# Altium footprint library consubd.PcbLib: 91 footprints (part 2 of 6)
Each footprint in its own frame and in the unit in brackets; x right, y up, seen from the top. Pads: shape width x height; smd on the part's side, far side on the other; paste and mask are expansions set on the pad; w line width, h text height; cw(c..) or ccw(c..) is an arc to the next point about the centre after c.
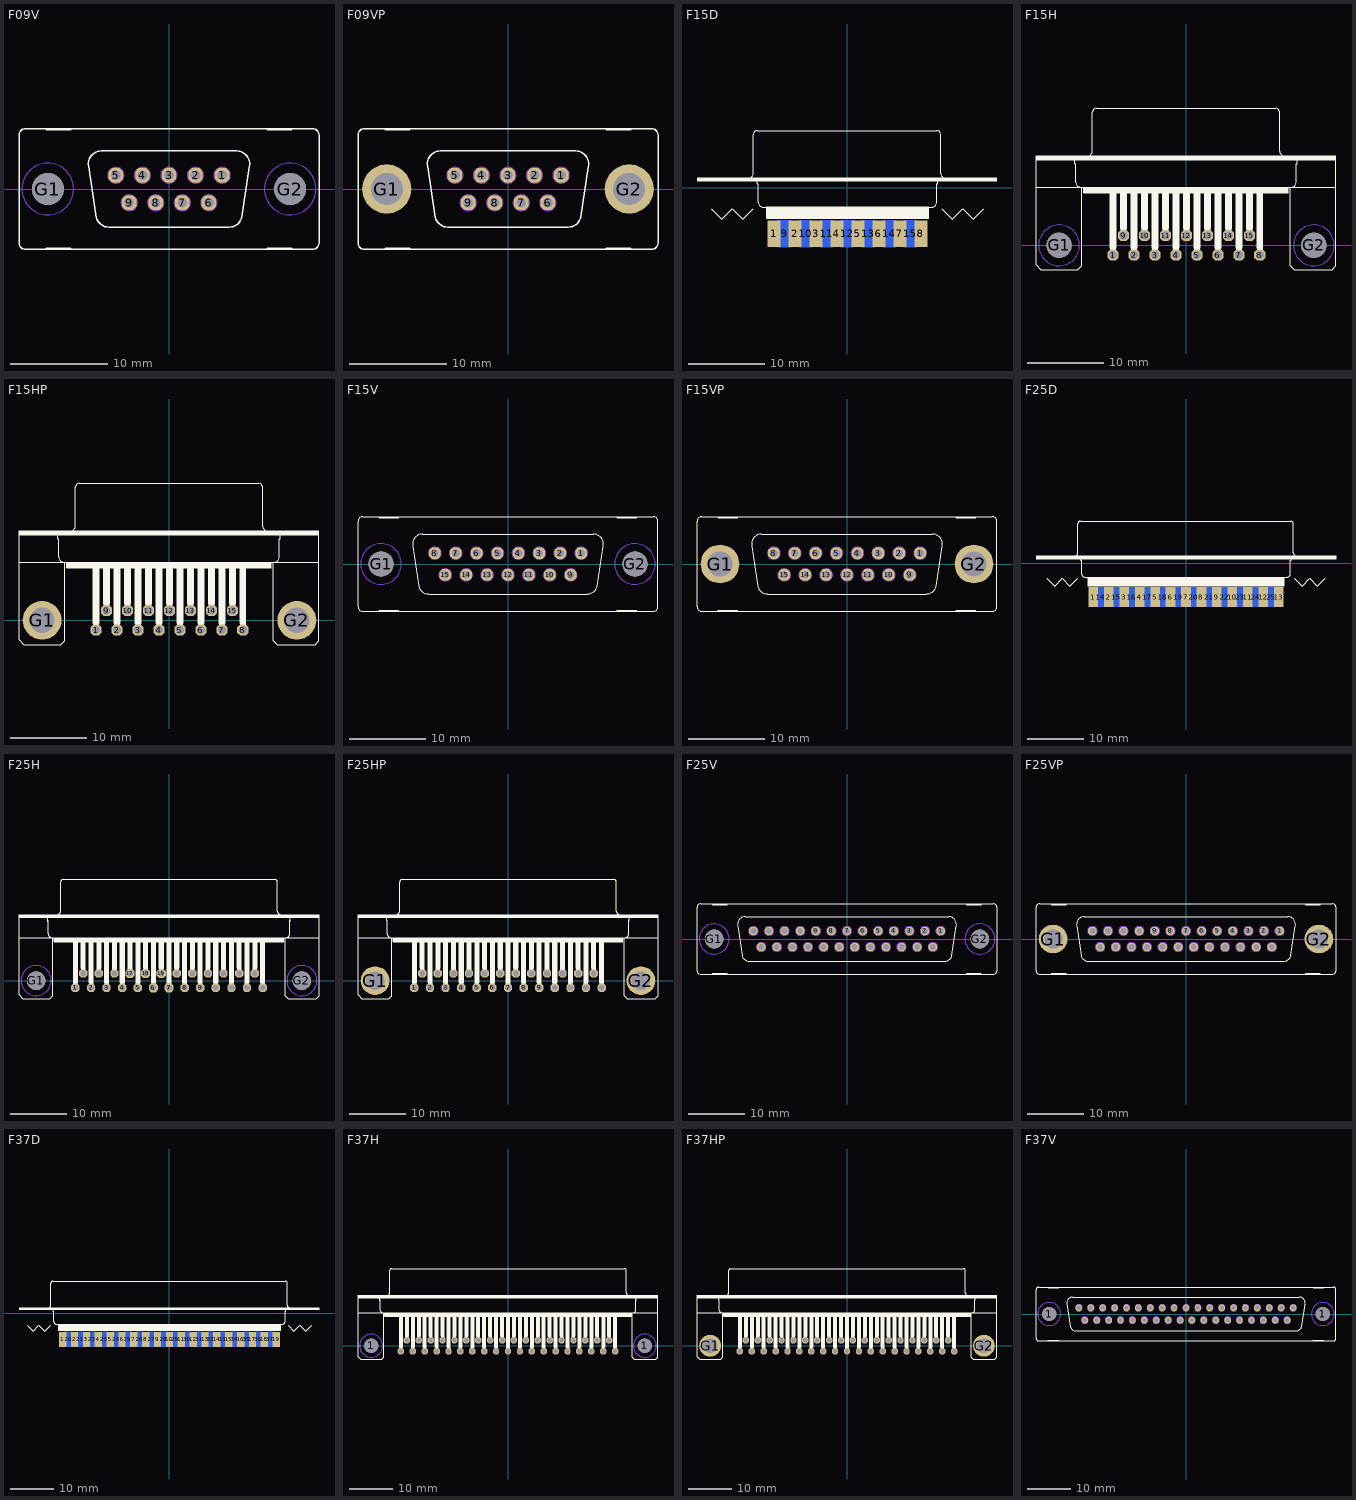
[diagram p1: the footprints below, top view; thin cyan lines are the x and y axes]

## F09V [mil]
pads (11):
  oct 58.09x58.09 hole 40: 1(216,56) 2(108,56) 3(0,56) 4(-108,56) 5(-216,56) 6(162,-56) 7(54,-56) 8(-54,-56) 9(-162,-56)
  round 130 hole 130: G1(-493,0) G2(493,0)
Top Layer keep-out:
  circle w0: c-493,0 r105
  circle w0: c493,0 r105
Bottom Layer keep-out:
  circle w0: c-493,0 r105
  circle w0: c493,0 r105
Top Overlay:
  lines w6: -327,92 -296,-116 ; -326.97,91.61 cw(c-275,102) -275,155 275,155 cw(c275,101.99) 326.79,90.7 ; -296.3,-115.33 ccw(c-245,-101.99) -245,-155 245,-155 ccw(c244.99,-102) 296.52,-114.37 ; 296,-115 327,91 ; -500,-245 -500,-240 -400,-240 -400,-245 ; -500,-245 -400,-245 ; -500,-245 -585,-245 cw(c-585,-220) -610,-220 -610,220 cw(c-585,220) -585,245 -500,245 ; -500,245 -500,240 -400,240 -400,245 ; -500,245 -400,245 ; -400,-245 400,-245 ; -400,245 400,245 ; 400,-245 400,-240 500,-240 500,-245 ; 400,-245 500,-245 ; 400,245 400,240 500,240 500,245 ; 400,245 500,245 ; 500,-245 585,-245 ccw(c585,-220) 610,-220 610,220 ccw(c585,220) 585,245 500,245
Mechanical 8:
  circle w10: c54,-56 r30
  circle w10: c108,56 r30
  circle w10: c162,-56 r30
  circle w10: c216,56 r30
  circle w10: c0,56 r30
  circle w10: c-54,-56 r30
  circle w10: c-108,56 r30
  circle w10: c-162,-56 r30
  circle w10: c-216,56 r30

## F09VP [mil]
pads (11):
  oct 58.09x58.09 hole 40: 1(216,56) 2(108,56) 3(0,56) 4(-108,56) 5(-216,56) 6(162,-56) 7(54,-56) 8(-54,-56) 9(-162,-56)
  round 200 hole 130: G1(-493,0) G2(493,0)
Top Overlay:
  lines w6: -327,92 -296,-116 ; -326.97,91.61 cw(c-275,102) -275,155 275,155 cw(c275,101.99) 326.79,90.7 ; -296.3,-115.33 ccw(c-245,-101.99) -245,-155 245,-155 ccw(c244.99,-102) 296.52,-114.37 ; 296,-115 327,91 ; -500,-245 -585,-245 cw(c-585,-220) -610,-220 -610,220 cw(c-585,220) -585,245 -500,245 ; -500,-245 -400,-245 ; -500,-245 -500,-240 -400,-240 -400,-245 ; -500,245 -400,245 ; -500,245 -500,240 -400,240 -400,245 ; -400,-245 400,-245 ; -400,245 400,245 ; 400,-245 500,-245 ; 400,-245 400,-240 500,-240 500,-245 ; 400,245 500,245 ; 400,245 400,240 500,240 500,245 ; 500,-245 585,-245 ccw(c585,-220) 610,-220 610,220 ccw(c585,220) 585,245 500,245
Mechanical 8:
  circle w10: c-216,56 r30
  circle w10: c-162,-56 r30
  circle w10: c-108,56 r30
  circle w10: c-54,-56 r30
  circle w10: c0,56 r30
  circle w10: c216,56 r30
  circle w10: c162,-56 r30
  circle w10: c108,56 r30
  circle w10: c54,-56 r30

## F15D [mil]
pads (15):
  rect 66.93x137.8 smd: 1(-378.01,-237.98) 2(-270,-237.99) 3(-161.99,-237.98) 4(-54.01,-237.98) 5(54.01,-237.98) 6(161.99,-237.98) 7(270,-237.99) 8(378.01,-237.98)
  rect 66.93x137.8 smd far side: 9(-324,-238) 10(-216,-238) 11(-108,-238) 12(0,-238) 13(108,-238) 14(216,-238) 15(324,-238)
Top Overlay:
  region: -775,31.94 -775,51.94 770,51.94 770,31.94
  region: -417.32,-161.42 -417.32,-98.43 417.32,-98.43 417.32,-161.42
  lines w0: -702,-108 -648,-162 -594,-108 -540,-162 -486,-108 ; 486,-108 540,-162 594,-108 648,-162 702,-108
  lines w6: -510,48 ccw(c-510,73) -485,73 -485,273 cw(c-465,273) -465,293 460,293 cw(c460,273) 480,273 480,73 ccw(c505,73) 505,48 ; -464,40 -464,20 -459,20 -459,-75 ccw(c-434,-75) -434,-100 ; -434.76,-100 434.76,-100 ; 434,-100 ccw(c434,-75) 459,-75 459,20 464,20 464,40

## F15H [mil]
pads (17):
  oct 58.09x58.09 hole 40: 1(-378,-50) 2(-270,-50) 3(-162,-50) 4(-54,-50) 5(54,-50) 6(162,-50) 7(270,-50) 8(378,-50) 9(-324,50) 10(-216,50) 11(-108,50) 12(0,50) 13(108,50) 14(216,50) 15(324,50)
  round 130 hole 130: G1(-656,0) G2(656,0)
Top Layer keep-out:
  circle w0: c-656,0 r105
  circle w0: c656,0 r105
Bottom Layer keep-out:
  circle w0: c-656,0 r105
  circle w0: c656,0 r105
Top Overlay:
  region: -530,270 -530,300 525,300 525,270
  region: -775,440 -775,460 770,460 770,440
  region: -394,-15 -394,270 -362,270 -362,-15
  region: -340,85 -340,270 -308,270 -308,85
  region: -286,-15 -286,270 -254,270 -254,-15
  region: -232,85 -232,270 -200,270 -200,85
  region: -178,-15 -178,270 -146,270 -146,-15
  region: -124,85 -124,270 -92,270 -92,85
  region: -70,-15 -70,270 -38,270 -38,-15
  region: -16,85 -16,270 16,270 16,85
  region: 38,-15 38,270 70,270 70,-15
  region: 92,85 92,270 124,270 124,85
  region: 146,-15 146,270 178,270 178,-15
  region: 200,85 200,270 232,270 232,85
  region: 254,-15 254,270 286,270 286,-15
  region: 308,85 308,270 340,270 340,85
  region: 362,-15 362,270 394,270 394,-15
  lines w6: -545,300 cw(c-545,325) -570,325 -570,420 -575,420 -575,440 ; -510,460 ccw(c-510,485) -485,485 -485,685 cw(c-465,685) -465,705 -455,705 450,705 460,705 cw(c460,685) 480,685 480,485 ccw(c505,485) 505,460 ; 540,300 ccw(c540,325) 565,325 565,420 570,420 570,440 ; -775,300 -575,300 -540,300 ; -775,300 -775,420 -775,440 ; -775,300 -775,295 -775,-100 -750,-125 -560,-125 -540,-105 -540,300 ; -775,440 -775,460 -470,460 465,460 770,460 770,440 ; -775,440 -675,440 -575,440 ; -575,440 570,440 ; -540,300 -530,300 ; -530,300 -530,270 525,270 525,300 ; -530,300 525,300 ; 525,300 535,300 ; 535,300 570,300 770,300 ; 535,300 535,-105 555,-125 750,-125 770,-105 770,295 770,300 ; 570,440 670,440 770,440 ; 770,300 770,420 770,440
  lines w32: -378,-45 -378,-5 ; -324,55 -324,95 ; -270,-45 -270,-5 ; -216,55 -216,95 ; -162,-45 -162,-5 ; -108,55 -108,95 ; -54,-45 -54,-5 ; 0,55 0,95 ; 54,-45 54,-5 ; 108,55 108,95 ; 162,-45 162,-5 ; 216,55 216,95 ; 270,-45 270,-5 ; 324,55 324,95 ; 378,-45 378,-5

## F15HP [mil]
pads (17):
  oct 58.09x58.09 hole 40: 1(-378,-50) 2(-270,-50) 3(-162,-50) 4(-54,-50) 5(54,-50) 6(162,-50) 7(270,-50) 8(378,-50) 9(-324,50) 10(-216,50) 11(-108,50) 12(0,50) 13(108,50) 14(216,50) 15(324,50)
  round 200 hole 130: G1(-656,0) G2(656,0)
Top Overlay:
  region: 362,-15 362,270 394,270 394,-15
  region: 308,85 308,270 340,270 340,85
  region: 254,-15 254,270 286,270 286,-15
  region: 200,85 200,270 232,270 232,85
  region: 146,-15 146,270 178,270 178,-15
  region: 92,85 92,270 124,270 124,85
  region: 38,-15 38,270 70,270 70,-15
  region: -16,85 -16,270 16,270 16,85
  region: -70,-15 -70,270 -38,270 -38,-15
  region: -124,85 -124,270 -92,270 -92,85
  region: -178,-15 -178,270 -146,270 -146,-15
  region: -232,85 -232,270 -200,270 -200,85
  region: -286,-15 -286,270 -254,270 -254,-15
  region: -340,85 -340,270 -308,270 -308,85
  region: -394,-15 -394,270 -362,270 -362,-15
  region: -775,440 -775,460 770,460 770,440
  region: -530,270 -530,300 525,300 525,270
  lines w6: -545,300 cw(c-545,325) -570,325 -570,420 -575,420 -575,440 ; -510,460 ccw(c-510,485) -485,485 -485,685 cw(c-465,685) -465,705 -455,705 450,705 460,705 cw(c460,685) 480,685 480,485 ccw(c505,485) 505,460 ; 540,300 ccw(c540,325) 565,325 565,420 570,420 570,440 ; -775,300 -775,295 -775,-100 -750,-125 -560,-125 -540,-105 -540,300 ; -775,300 -775,420 -775,440 ; -775,300 -575,300 -540,300 ; -775,440 -675,440 -575,440 ; -775,440 -775,460 -470,460 465,460 770,460 770,440 ; -575,440 570,440 ; -540,300 -530,300 ; -530,300 525,300 ; -530,300 -530,270 525,270 525,300 ; 525,300 535,300 ; 535,300 535,-105 555,-125 750,-125 770,-105 770,295 770,300 ; 535,300 570,300 770,300 ; 570,440 670,440 770,440 ; 770,300 770,420 770,440
  lines w32: -378,-45 -378,-5 ; -324,55 -324,95 ; -270,-45 -270,-5 ; -216,55 -216,95 ; -162,-45 -162,-5 ; -108,55 -108,95 ; -54,-45 -54,-5 ; 0,55 0,95 ; 54,-45 54,-5 ; 108,55 108,95 ; 162,-45 162,-5 ; 216,55 216,95 ; 270,-45 270,-5 ; 324,55 324,95 ; 378,-45 378,-5

## F15V [mil]
pads (17):
  oct 58.09x58.09 hole 40: 1(378,56) 2(270,56) 3(162,56) 4(54,56) 5(-54,56) 6(-162,56) 7(-270,56) 8(-378,56) 9(324,-56) 10(216,-56) 11(108,-56) 12(0,-56) 13(-108,-56) 14(-216,-56) 15(-324,-56)
  round 130 hole 130: G1(-656,0) G2(656,0)
Top Layer keep-out:
  circle w0: c-656,0 r105
  circle w0: c656,0 r105
Bottom Layer keep-out:
  circle w0: c-656,0 r105
  circle w0: c656,0 r105
Top Overlay:
  lines w6: -492,92 -461,-116 ; -491.97,91.61 cw(c-440,102) -440,155 440,155 cw(c440,101.99) 491.79,90.7 ; -461.3,-115.33 ccw(c-410,-101.99) -410,-155 410,-155 ccw(c409.99,-102) 461.52,-114.37 ; 461,-115 492,91 ; -665,-245 -750,-245 cw(c-750,-220) -775,-220 -775,220 cw(c-750,220) -750,245 -665,245 ; -665,-245 -565,-245 ; -665,-245 -665,-240 -565,-240 -565,-245 ; -665,245 -565,245 ; -665,245 -665,240 -565,240 -565,245 ; -565,-245 565,-245 ; -565,245 565,245 ; 565,-245 665,-245 ; 565,-245 565,-240 665,-240 665,-245 ; 565,245 665,245 ; 565,245 565,240 665,240 665,245 ; 665,-245 750,-245 ccw(c750,-220) 775,-220 775,220 ccw(c750,220) 750,245 665,245
Mechanical 8:
  circle w10: c-324,-56 r30
  circle w10: c-216,-56 r30
  circle w10: c-378,56 r30
  circle w10: c-270,56 r30
  circle w10: c324,-56 r30
  circle w10: c378,56 r30
  circle w10: c-162,56 r30
  circle w10: c-108,-56 r30
  circle w10: c-54,56 r30
  circle w10: c0,-56 r30
  circle w10: c54,56 r30
  circle w10: c270,56 r30
  circle w10: c216,-56 r30
  circle w10: c162,56 r30
  circle w10: c108,-56 r30

## F15VP [mil]
pads (17):
  oct 58.09x58.09 hole 40: 1(378,56) 2(270,56) 3(162,56) 4(54,56) 5(-54,56) 6(-162,56) 7(-270,56) 8(-378,56) 9(324,-56) 10(216,-56) 11(108,-56) 12(0,-56) 13(-108,-56) 14(-216,-56) 15(-324,-56)
  round 200 hole 130: G1(-656,0) G2(656,0)
Top Overlay:
  lines w6: -492,92 -461,-116 ; -491.97,91.61 cw(c-440,102) -440,155 440,155 cw(c440,101.99) 491.79,90.7 ; -461.3,-115.33 ccw(c-410,-101.99) -410,-155 410,-155 ccw(c409.99,-102) 461.52,-114.37 ; 461,-115 492,91 ; -665,-245 -750,-245 cw(c-750,-220) -775,-220 -775,220 cw(c-750,220) -750,245 -665,245 ; -665,-245 -565,-245 ; -665,-245 -665,-240 -565,-240 -565,-245 ; -665,245 -565,245 ; -665,245 -665,240 -565,240 -565,245 ; -565,-245 565,-245 ; -565,245 565,245 ; 565,-245 665,-245 ; 565,-245 565,-240 665,-240 665,-245 ; 565,245 665,245 ; 565,245 565,240 665,240 665,245 ; 665,-245 750,-245 ccw(c750,-220) 775,-220 775,220 ccw(c750,220) 750,245 665,245
Mechanical 8:
  circle w10: c-324,-56 r30
  circle w10: c-216,-56 r30
  circle w10: c-378,56 r30
  circle w10: c-270,56 r30
  circle w10: c324,-56 r30
  circle w10: c378,56 r30
  circle w10: c-162,56 r30
  circle w10: c-108,-56 r30
  circle w10: c-54,56 r30
  circle w10: c0,-56 r30
  circle w10: c54,56 r30
  circle w10: c270,56 r30
  circle w10: c216,-56 r30
  circle w10: c162,56 r30
  circle w10: c108,-56 r30

## F25D [mil]
pads (25):
  rect 66.93x137.8 smd: 1(-648.01,-237.98) 2(-540,-237.99) 3(-431.99,-237.98) 4(-324.01,-237.98) 5(-215.99,-237.98) 6(-108.01,-237.98) 7(0,-237.99) 8(108.01,-237.98) 9(215.99,-237.98) 10(324.01,-237.98) 11(431.99,-237.98) 12(540,-237.99) 13(648.01,-237.98)
  rect 66.93x137.8 smd far side: 14(-594,-238) 15(-486,-238) 16(-378,-238) 17(-270,-238) 18(-162,-238) 19(-54,-238) 20(54,-238) 21(162,-238) 22(270,-238) 23(378,-238) 24(486,-238) 25(594,-238)
Top Overlay:
  region: -685.04,-161.42 -685.04,-98.43 685.04,-98.43 685.04,-161.42
  region: -1047.24,27.56 -1047.24,51.18 1047.24,51.18 1047.24,27.56
  lines w0: -972,-108 -918,-162 -864,-108 -810,-162 -756,-108 ; 756,-108 810,-162 864,-108 918,-162 972,-108
  lines w6: -780,48 ccw(c-780,73) -755,73 -755,273 cw(c-735,273) -735,293 730,293 cw(c730,273) 750,273 750,73 ccw(c775,73) 775,48 ; -734,40 -734,20 -729,20 -729,-75 ccw(c-704,-75) -704,-100 ; -704.76,-100 704.76,-100 ; 704,-100 ccw(c704,-75) 729,-75 729,20 734,20 734,40

## F25H [mil]
pads (27):
  oct 58.09x58.09 hole 40: 1(-652,-50) 2(-543,-50) 3(-435,-50) 4(-326,-50) 5(-217,-50) 8(109,-50) 9(217,-50) 10(326,-50) 11(435,-50) 12(543,-50) 13(652,-50) 14(-598,50) 15(-489,50) 16(-380,50) 20(54,50) 21(163,50) 22(272,50) 23(380,50) 24(489,50) 25(598,50)
  oct 63.66x63.66 hole 40: 6(-109,-50) 7(0,-50) 17(-272,50) 18(-163,50) 19(-54,50)
  round 130 hole 130: G1(-926,0) G2(926,0)
Top Layer keep-out:
  circle w0: c-926,0 r105
  circle w0: c926,0 r105
Bottom Layer keep-out:
  circle w0: c-926,0 r105
  circle w0: c926,0 r105
Top Overlay:
  drawing of 107 lines, arcs and shapes, not listed

## F25HP [mil]
pads (27):
  oct 58.09x58.09 hole 40: 1(-652,-50) 2(-543,-50) 3(-435,-50) 4(-326,-50) 5(-217,-50) 6(-109,-50) 7(0,-50) 8(109,-50) 9(217,-50) 10(326,-50) 11(435,-50) 12(543,-50) 13(652,-50) 14(-598,50) 15(-489,50) 16(-380,50) 17(-272,50) 18(-163,50) 19(-54,50) 20(54,50) 21(163,50) 22(272,50) 23(380,50) 24(489,50) 25(598,50)
  round 200 hole 130: G1(-926,0) G2(926,0)
Top Overlay:
  drawing of 105 lines, arcs and shapes, not listed

## F25V [mil]
pads (27):
  oct 58.09x58.09 hole 40: 1(652,56) 2(543,56) 3(435,56) 4(326,56) 5(217,56) 6(109,56) 7(0,56) 8(-109,56) 9(-217,56) 10(-326,56) 11(-435,56) 12(-543,56) 13(-652,56) 14(598,-56) 15(489,-56) 16(380,-56) 17(272,-56) 18(163,-56) 19(54,-56) 20(-54,-56) 21(-163,-56) 22(-272,-56) 23(-380,-56) 24(-489,-56) 25(-598,-56)
  round 130 hole 130: G1(-926,0) G2(926,0)
Top Layer keep-out:
  circle w0: c926,0 r105
  circle w0: c-926,0 r105
Bottom Layer keep-out:
  circle w0: c926,0 r105
  circle w0: c-926,0 r105
Top Overlay:
  lines w6: -762,92 -731,-116 ; -761.97,91.61 cw(c-710,102) -710,155 710,155 cw(c710,101.99) 761.79,90.7 ; -731.3,-115.33 ccw(c-680,-101.99) -680,-155 680,-155 ccw(c679.99,-102) 731.52,-114.37 ; 731,-115 762,91 ; -935,-245 -935,-240 -835,-240 -835,-245 ; -935,-245 -835,-245 ; -935,-245 -1020,-245 cw(c-1020,-220) -1045,-220 -1045,220 cw(c-1020,220) -1020,245 -935,245 ; -935,245 -935,240 -835,240 -835,245 ; -935,245 -835,245 ; -835,-245 835,-245 ; -835,245 835,245 ; 835,-245 835,-240 935,-240 935,-245 ; 835,-245 935,-245 ; 835,245 835,240 935,240 935,245 ; 835,245 935,245 ; 935,-245 1020,-245 ccw(c1020,-220) 1045,-220 1045,220 ccw(c1020,220) 1020,245 935,245
Mechanical 8:
  circle w10: c54,-56 r30
  circle w10: c0,56 r30
  circle w10: c-54,-56 r30
  circle w10: c109,56 r30
  circle w10: c-109,56 r30
  circle w10: c163,-56 r30
  circle w10: c-163,-56 r30
  circle w10: c217,56 r30
  circle w10: c326,56 r30
  circle w10: c272,-56 r30
  circle w10: c380,-56 r30
  circle w10: c435,56 r30
  circle w10: c489,-56 r30
  circle w10: c543,56 r30
  circle w10: c598,-56 r30
  circle w10: c652,56 r30
  circle w10: c-217,56 r30
  circle w10: c-326,56 r30
  circle w10: c-435,56 r30
  circle w10: c-272,-56 r30
  circle w10: c-380,-56 r30
  circle w10: c-489,-56 r30
  circle w10: c-543,56 r30
  circle w10: c-652,56 r30
  circle w10: c-598,-56 r30

## F25VP [mil]
pads (27):
  oct 58.09x58.09 hole 40: 1(652,56) 2(543,56) 3(435,56) 4(326,56) 5(217,56) 6(109,56) 7(0,56) 8(-109,56) 9(-217,56) 10(-326,56) 11(-435,56) 12(-543,56) 13(-652,56) 14(598,-56) 15(489,-56) 16(380,-56) 17(272,-56) 18(163,-56) 19(54,-56) 20(-54,-56) 21(-163,-56) 22(-272,-56) 23(-380,-56) 24(-489,-56) 25(-598,-56)
  round 200 hole 130: G1(-926,0) G2(926,0)
Top Overlay:
  lines w6: -762,92 -731,-116 ; -761.97,91.61 cw(c-710,102) -710,155 710,155 cw(c710,101.99) 761.79,90.7 ; -731.3,-115.33 ccw(c-680,-101.99) -680,-155 680,-155 ccw(c679.99,-102) 731.52,-114.37 ; 731,-115 762,91 ; -935,-245 -935,-240 -835,-240 -835,-245 ; -935,-245 -835,-245 ; -935,-245 -1020,-245 cw(c-1020,-220) -1045,-220 -1045,220 cw(c-1020,220) -1020,245 -935,245 ; -935,245 -935,240 -835,240 -835,245 ; -935,245 -835,245 ; -835,-245 835,-245 ; -835,245 835,245 ; 835,-245 835,-240 935,-240 935,-245 ; 835,-245 935,-245 ; 835,245 835,240 935,240 935,245 ; 835,245 935,245 ; 935,-245 1020,-245 ccw(c1020,-220) 1045,-220 1045,220 ccw(c1020,220) 1020,245 935,245
Mechanical 8:
  circle w10: c54,-56 r30
  circle w10: c0,56 r30
  circle w10: c-54,-56 r30
  circle w10: c109,56 r30
  circle w10: c-109,56 r30
  circle w10: c163,-56 r30
  circle w10: c-163,-56 r30
  circle w10: c217,56 r30
  circle w10: c326,56 r30
  circle w10: c272,-56 r30
  circle w10: c380,-56 r30
  circle w10: c435,56 r30
  circle w10: c489,-56 r30
  circle w10: c543,56 r30
  circle w10: c598,-56 r30
  circle w10: c652,56 r30
  circle w10: c-217,56 r30
  circle w10: c-326,56 r30
  circle w10: c-435,56 r30
  circle w10: c-272,-56 r30
  circle w10: c-380,-56 r30
  circle w10: c-489,-56 r30
  circle w10: c-543,56 r30
  circle w10: c-652,56 r30
  circle w10: c-598,-56 r30

## F37D [mil]
pads (37):
  rect 66.93x137.8 smd: 1(-972.01,-237.99) 2(-864.01,-237.98) 3(-755.99,-237.98) 4(-648.01,-237.98) 5(-540,-237.99) 6(-431.99,-237.98) 7(-324.01,-237.98) 8(-215.99,-237.98) 9(-108.01,-237.98) 10(0,-237.99) 11(108.01,-237.98) 12(215.99,-237.98) 13(324.01,-237.98) 14(431.99,-237.98) 15(540,-237.99) 16(648.01,-237.98) 17(755.99,-237.98) 18(864.01,-237.98) 19(972.01,-237.99)
  rect 66.93x137.8 smd far side: 20(-918,-238) 21(-810,-238) 22(-702,-238) 23(-594,-238) 24(-486,-238) 25(-378,-238) 26(-270,-238) 27(-162,-238) 28(-54,-238) 29(54,-238) 30(162,-238) 31(270,-238) 32(378,-238) 33(486,-238) 34(594,-238) 35(702,-238) 36(810,-238) 37(918,-238)
Top Overlay:
  region: -775,31.94 -775,51.94 770,51.94 770,31.94
  region: -1370.08,31.5 -1370.08,51.18 1362.2,51.18 1362.2,31.5
  region: -1011.81,-161.42 -1011.81,-98.43 1011.81,-98.43 1011.81,-161.42
  lines w0: -1296,-108 -1242,-162 -1188,-108 -1134,-162 -1080,-108 ; 1080,-108 1134,-162 1188,-108 1242,-162 1296,-108
  lines w6: -1104,48 ccw(c-1104,73) -1079,73 -1079,273 cw(c-1059,273) -1059,293 1054,293 cw(c1054,273) 1074,273 1074,73 ccw(c1099,73) 1099,48 ; -1058,40 -1058,20 -1053,20 -1053,-75 ccw(c-1028,-75) -1028,-100 ; -1028.74,-100 1028.74,-100 ; 1028,-100 ccw(c1028,-75) 1053,-75 1053,20 1058,20 1058,40

## F37H [mil]
pads (39):
  round 130 hole 130: 1(-1250,0) 1(1250,0)
  oct 58.09x58.09 hole 40: 1(-978,-50) 2(-869,-50) 3(-761,-50) 4(-652,-50) 5(-543,-50) 6(-435,-50) 7(-326,-50) 8(-217,-50) 9(-109,-50) 10(0,-50) 11(109,-50) 12(217,-50) 13(326,-50) 14(435,-50) 15(544,-50) 16(652,-50) 17(761,-50) 18(870,-50) 19(978,-50) 20(-924,50) 21(-815,50) 22(-706,50) 23(-598,50) 24(-489,50) 25(-380,50) 26(-272,50) 27(-163,50) 28(-54,50) 29(54,50) 30(163,50) 31(272,50) 32(381,50) 33(489,50) 34(598,50) 35(707,50) 36(815,50) 37(924,50)
Top Layer keep-out:
  circle w0: c1250,0 r105
  circle w0: c-1250,0 r105
Bottom Layer keep-out:
  circle w0: c1250,0 r105
  circle w0: c-1250,0 r105
Top Overlay:
  drawing of 131 lines, arcs and shapes, not listed

## F37HP [mil]
pads (39):
  oct 58.09x58.09 hole 40: 1(-978,-50) 2(-869,-50) 3(-761,-50) 4(-652,-50) 5(-543,-50) 6(-435,-50) 7(-326,-50) 8(-217,-50) 9(-109,-50) 10(0,-50) 11(109,-50) 12(217,-50) 13(326,-50) 14(435,-50) 15(544,-50) 16(652,-50) 17(761,-50) 18(870,-50) 19(978,-50) 20(-924,50) 21(-815,50) 22(-706,50) 23(-598,50) 24(-489,50) 25(-380,50) 26(-272,50) 27(-163,50) 28(-54,50) 29(54,50) 30(163,50) 31(272,50) 32(381,50) 33(489,50) 34(598,50) 35(707,50) 36(815,50) 37(924,50)
  round 200 hole 130: G1(-1250,0) G2(1250,0)
Top Overlay:
  drawing of 129 lines, arcs and shapes, not listed

## F37V [mil]
pads (39):
  round 130 hole 130: 1(-1250,0) 1(1250,0)
  oct 58.09x58.09 hole 40: 1(978,56) 2(869,56) 3(761,56) 4(652,56) 5(543,56) 6(435,56) 7(326,56) 8(217,56) 9(109,56) 10(0,56) 11(-109,56) 12(-217,56) 13(-326,56) 14(-435,56) 15(-544,56) 16(-652,56) 17(-761,56) 18(-870,56) 19(-978,56) 20(924,-56) 21(815,-56) 22(706,-56) 23(598,-56) 24(489,-56) 25(380,-56) 26(272,-56) 27(163,-56) 28(54,-56) 29(-54,-56) 30(-163,-56) 31(-272,-56) 32(-381,-56) 33(-489,-56) 34(-598,-56) 35(-707,-56) 36(-815,-56) 37(-924,-56)
Top Layer keep-out:
  circle w0: c-1250,0 r105
  circle w0: c1250,0 r105
Bottom Layer keep-out:
  circle w0: c-1250,0 r105
  circle w0: c1250,0 r105
Top Overlay:
  lines w6: -1087,92 -1056,-116 ; -1086.97,91.61 cw(c-1035,102) -1035,155 1035,155 cw(c1035,101.99) 1086.79,90.7 ; -1056.3,-115.33 ccw(c-1005,-101.99) -1005,-155 1005,-155 ccw(c1004.99,-102) 1056.52,-114.37 ; 1056,-115 1087,91 ; -1260,-245 -1345,-245 cw(c-1345,-220) -1370,-220 -1370,220 cw(c-1345,220) -1345,245 -1260,245 ; -1260,-245 -1160,-245 ; -1260,-245 -1260,-240 -1160,-240 -1160,-245 ; -1260,245 -1160,245 ; -1260,245 -1260,240 -1160,240 -1160,245 ; -1160,-245 1160,-245 ; -1160,245 1160,245 ; 1160,-245 1260,-245 ; 1160,-245 1160,-240 1260,-240 1260,-245 ; 1160,245 1260,245 ; 1160,245 1160,240 1260,240 1260,245 ; 1260,-245 1345,-245 ccw(c1345,-220) 1370,-220 1370,220 ccw(c1345,220) 1345,245 1260,245
Mechanical 8:
  circle w10: c-924,-56 r30
  circle w10: c-815,-56 r30
  circle w10: c-706,-56 r30
  circle w10: c-978,56 r30
  circle w10: c-869,56 r30
  circle w10: c-761,56 r30
  circle w10: c924,-56 r30
  circle w10: c815,-56 r30
  circle w10: c706,-56 r30
  circle w10: c978,56 r30
  circle w10: c869,56 r30
  circle w10: c761,56 r30
  circle w10: c-598,-56 r30
  circle w10: c-652,56 r30
  circle w10: c-543,56 r30
  circle w10: c-489,-56 r30
  circle w10: c-380,-56 r30
  circle w10: c-272,-56 r30
  circle w10: c-435,56 r30
  circle w10: c-326,56 r30
  circle w10: c-217,56 r30
  circle w10: c652,56 r30
  circle w10: c598,-56 r30
  circle w10: c543,56 r30
  circle w10: c489,-56 r30
  circle w10: c435,56 r30
  circle w10: c380,-56 r30
  circle w10: c272,-56 r30
  circle w10: c326,56 r30
  circle w10: c217,56 r30
  circle w10: c-163,-56 r30
  circle w10: c163,-56 r30
  circle w10: c-109,56 r30
  circle w10: c109,56 r30
  circle w10: c-54,-56 r30
  circle w10: c0,56 r30
  circle w10: c54,-56 r30